# EAGLE library part CART-72-NAMES (library TinyNES_Library)
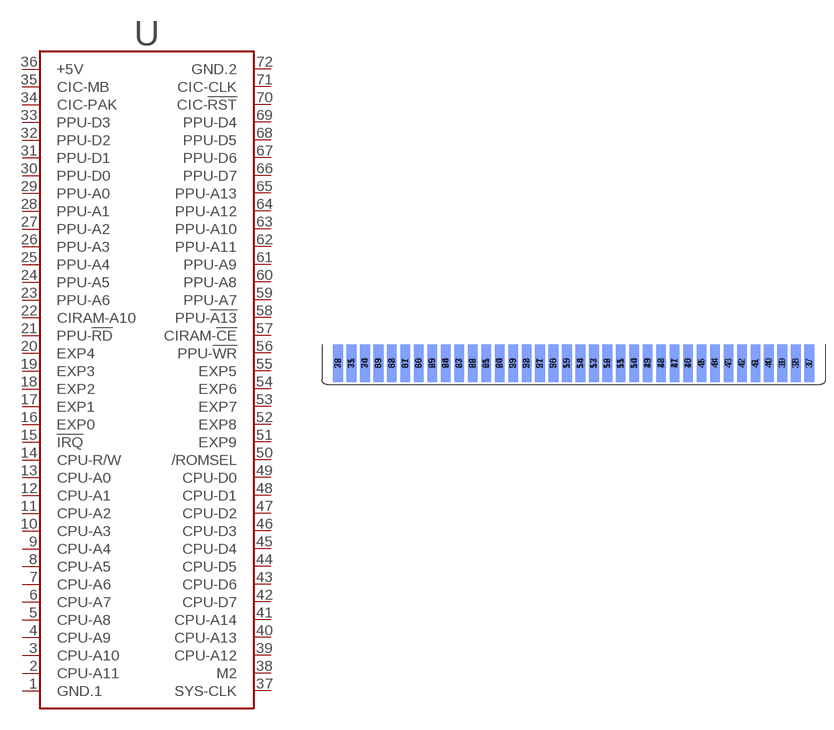
[diagram p16: symbol with the pads of CART-72-2.50-GOLD-FINGERS; footprint CART-72-2.50-GOLD-FINGERS]

Designator prefix -

## CART-72-NAMES-GOLD-FINGERS  [CART-72-2.50-GOLD-FINGERS]
1  GND.1
2  CPU-A11
3  CPU-A10
4  CPU-A9
5  CPU-A8
6  CPU-A7
7  CPU-A6
8  CPU-A5
9  CPU-A4
10  CPU-A3
11  CPU-A2
12  CPU-A1
13  CPU-A0
14  CPU-R/W
15  !IRQ
16  EXP0
17  EXP1
18  EXP2
19  EXP3
20  EXP4
21  PPU-!RD
22  CIRAM-A10
23  PPU-A6
24  PPU-A5
25  PPU-A4
26  PPU-A3
27  PPU-A2
28  PPU-A1
29  PPU-A0
30  PPU-D0
31  PPU-D1
32  PPU-D2
33  PPU-D3
34  CIC-PAK
35  CIC-MB
36  +5V
37  SYS-CLK
38  M2
39  CPU-A12
40  CPU-A13
41  CPU-A14
42  CPU-D7
43  CPU-D6
44  CPU-D5
45  CPU-D4
46  CPU-D3
47  CPU-D2
48  CPU-D1
49  CPU-D0
50  /ROMSEL
51  EXP9
52  EXP8
53  EXP7
54  EXP6
55  EXP5
56  PPU-!WR
57  CIRAM-!CE
58  PPU-!A13
59  PPU-A7
60  PPU-A8
61  PPU-A9
62  PPU-A11
63  PPU-A10
64  PPU-A12
65  PPU-A13
66  PPU-D7
67  PPU-D6
68  PPU-D5
69  PPU-D4
70  CIC-!RST
71  CIC-CLK
72  GND.2

## Footprint CART-72-2.50-GOLD-FINGERS (pad centres in mm)
smd 1.8 x 7: 1 43.75,4; 2 41.25,4; 3 38.75,4; 4 36.25,4; 5 33.75,4; 6 31.25,4; 7 28.75,4; 8 26.25,4; 9 23.75,4; 10 21.25,4; 11 18.75,4; 12 16.25,4; 13 13.75,4; 14 11.25,4; 15 8.75,4; 16 6.25,4; 17 3.75,4; 18 1.25,4; 19 -1.25,4; 20 -3.75,4; 21 -6.25,4; 22 -8.75,4; 23 -11.25,4; 24 -13.75,4; 25 -16.25,4; 26 -18.75,4; 27 -21.25,4; 28 -23.75,4; 29 -26.25,4; 30 -28.75,4; 31 -31.25,4; 32 -33.75,4; 33 -36.25,4; 34 -38.75,4; 35 -41.25,4; 36 -43.75,4
smd 1.8 x 7 bottom: 37 43.75,4; 38 41.25,4; 39 38.75,4; 40 36.25,4; 41 33.75,4; 42 31.25,4; 43 28.75,4; 44 26.25,4; 45 23.75,4; 46 21.25,4; 47 18.75,4; 48 16.25,4; 49 13.75,4; 50 11.25,4; 51 8.75,4; 52 6.25,4; 53 3.75,4; 54 1.25,4; 55 -1.25,4; 56 -3.75,4; 57 -6.25,4; 58 -8.75,4; 59 -11.25,4; 60 -13.75,4; 61 -16.25,4; 62 -18.75,4; 63 -21.25,4; 64 -23.75,4; 65 -26.25,4; 66 -28.75,4; 67 -31.25,4; 68 -33.75,4; 69 -36.25,4; 70 -38.75,4; 71 -41.25,4; 72 -43.75,4